# Altium footprint library gyh的PCB库 .PcbLib: 41 footprints (part 1 of 3)
Each footprint in its own frame and in the unit in brackets; x right, y up, seen from the top. Pads: shape width x height; smd on the part's side, far side on the other; paste and mask are expansions set on the pad; w line width, h text height; cw(c..) or ccw(c..) is an arc to the next point about the centre after c.
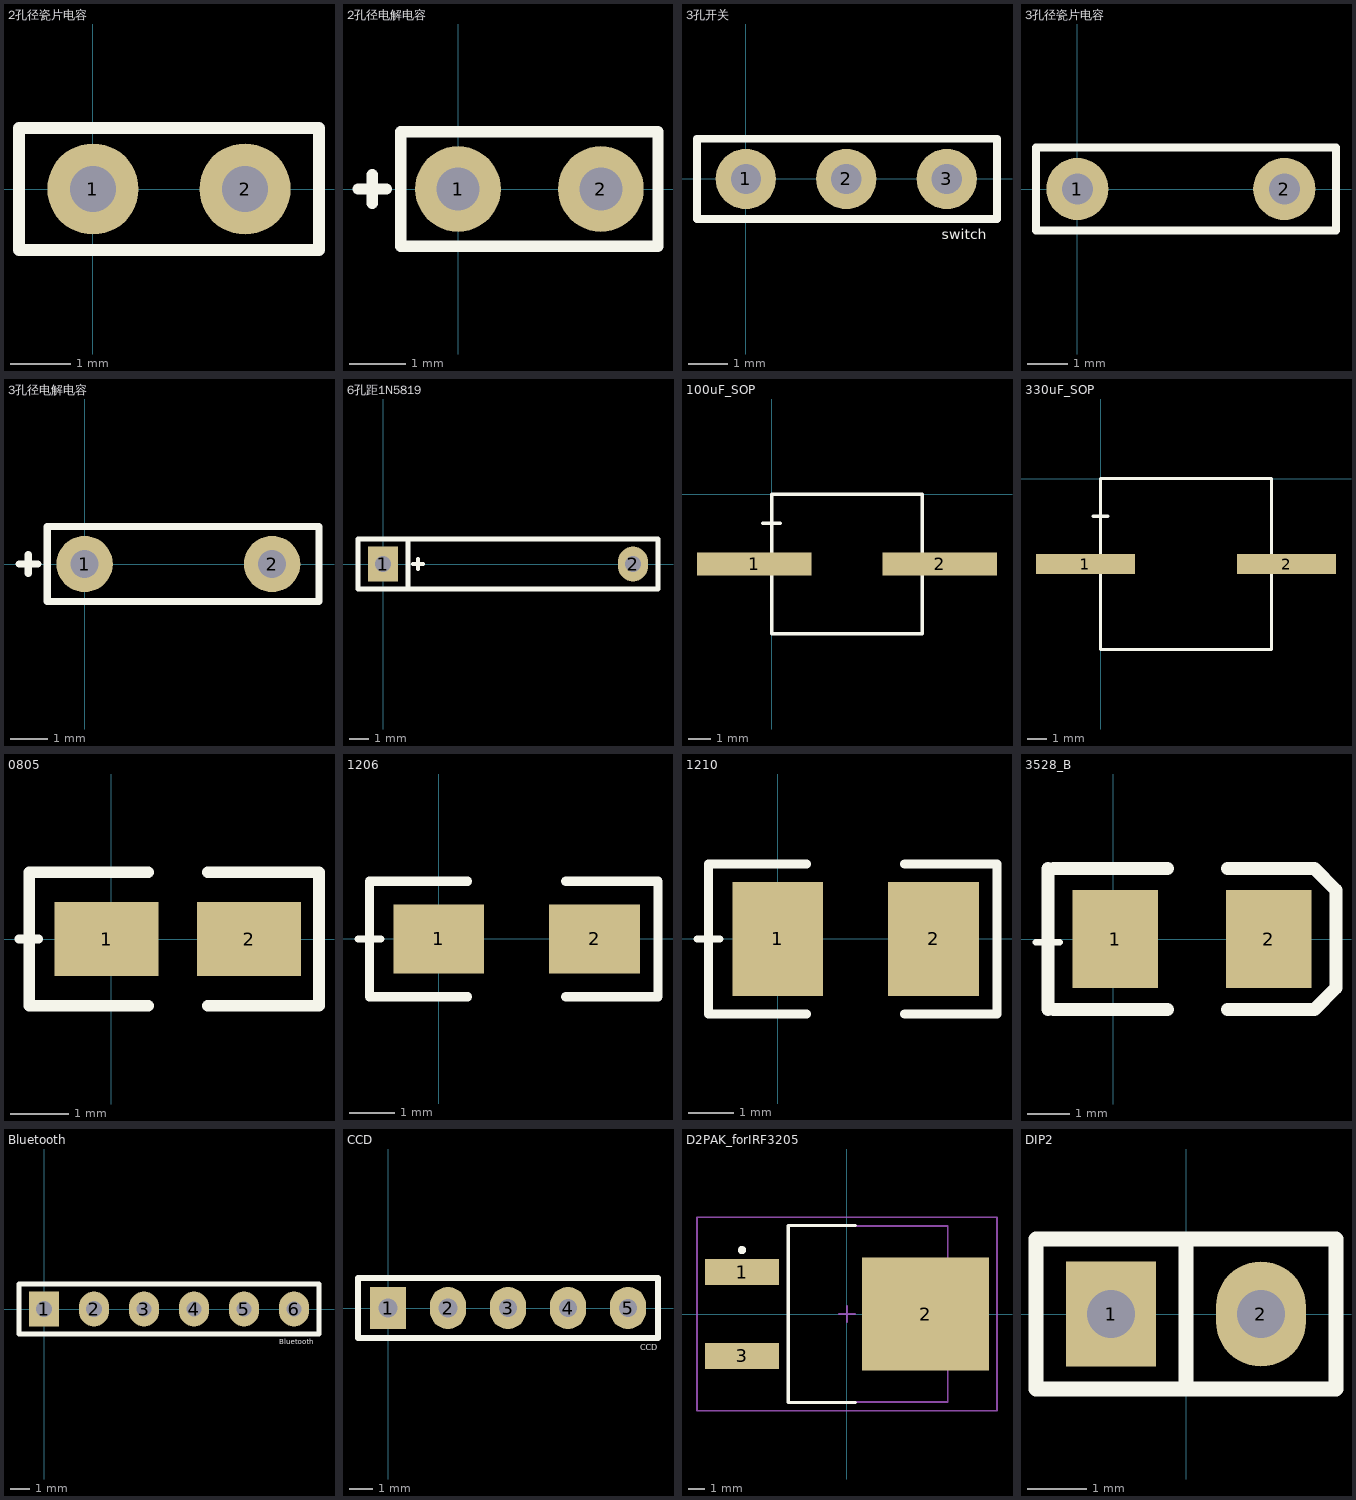
[diagram p0: the footprints below, top view; thin cyan lines are the x and y axes]

## 2孔径瓷片电容 [mil]
pads (2):
  round 60 hole 30: 1(0,0) 2(100,0)
Top Overlay:
  lines w7.87: -48.62,-40 -48.62,40 148.62,40 148.62,0 148.62,-40 -48.62,-40

## 2孔径电解电容 [mil]
pads (2):
  round 60 hole 30: 1(0,0) 2(100,0)
Top Overlay:
  lines w7.87: -70,0 -50,0 ; -60,-10 -60,10 ; -40,-40 140,-40 140,8.62 140,40 -40,40 -40,-40

## 3孔开关 [mil]
pads (3):
  round 60 hole 30: 1(0,0) 2(100,0) 3(200,0)
Top Overlay:
  lines w7.87: -48.62,-40 250,-40 250,40 -48.62,40 -48.62,-40
  text "switch" at 195,-60 h10

## 3孔径瓷片电容 [mil]
pads (2):
  round 60 hole 30: 1(0,0) 2(200,0)
Top Overlay:
  lines w7.87: -40,-40 250,-40 250,40 -40,40 -40,-40

## 3孔径电解电容 [mil]
pads (2):
  round 60 hole 30: 1(0,0) 2(200,0)
Top Overlay:
  lines w7.87: -70,0 -50,0 ; -60,-10 -60,10 ; -40,-40 132.5,-40 250,-40 250,40 -40,40 -40,-40

## 6孔距1N5819 [mil]
pads (2):
  rect 60x70 hole 32: 1(0,0)
  oval 60x70 hole 32: 2(500,0)
Top Overlay:
  lines w7.87: 60,0 80,0 ; 70,-10 70,10
  lines w10: 50,-50 50,50 ; -50,-50 -50,50 550,50 550,-50 -50,-50

## 100uF_SOP [mil] "6.3*5.4mm"
height 212.6
pads (2):
  rect 196.85x39.37 smd: 1(-30,-120) 2(290,-120)
Top Overlay:
  lines w6: -15,-50 15,-50 ; 0,-240 0,0 260,0 260,-240 0,-240

## 330uF_SOP [mil] "8*10.2"
pads (2):
  rect 196.85x39.37 smd: 1(-30,-170) 2(370,-170)
Top Overlay:
  lines w6: -15,-75 15,-75 ; 0,-340 0,0 340,0 340,-340 0,-340

## 0805 [mil]
pads (2):
  rect 70x50 smd: 1(-3,0) 2(93,0)
Top Overlay:
  lines w6: -62,0 -49,0
  lines w7.87: 25,-45 -55,-45 -55,45 25,45 ; 65,-45 140,-45 140,45 65,45

## 1206 [mil]
pads (2):
  rect 78.74x60 smd: 1(0,0) 2(135,0)
Top Overlay:
  lines w6: -70,0 -50,0
  lines w8: 25,-50 -60,-50 -60,50 25,50 ; 110,-50 190,-50 190,50 110,50

## 1210 [mm]
pads (2):
  rect 2x2.5 smd: 1(0,0) 2(3.429,0)
Top Overlay:
  lines w0.152: -1.778,0 -1.27,0
  lines w0.203: 0.635,-1.651 -1.524,-1.651 -1.524,1.651 0.635,1.651 ; 2.794,-1.651 4.826,-1.651 4.826,1.651 2.794,1.651

## 3528_B [mil]
pads (2):
  rect 78.74x90 smd: 1(2,0) 2(143,0)
Top Overlay:
  lines w6: -71,-3 -49,-3
  lines w12: -60,-65 -60,65 ; -55,-65 50,-65 ; -55,65 50,65 ; 105,-65 185,-65 205,-45 205,45 185,65 105,65

## Bluetooth [mil]
pads (6):
  rect 60x70 hole 32: 1(0,0)
  oval 60x70 hole 32: 2(100,0)
  oval 60x70 hole 30: 3(200,0) 4(300,0) 5(400,0) 6(500,0)
Top Overlay:
  lines w10: -50,-50 -50,50 550,50 550,-50 -50,-50
  text "Bluetooth" at 470,-70 h10

## CCD [mil]
pads (5):
  rect 60x70 hole 32: 1(0,0)
  oval 60x70 hole 32: 2(100,0)
  oval 60x70 hole 30: 3(200,0) 4(300,0) 5(400,0)
Top Overlay:
  lines w10: -50,-50 450,-50 450,50 -50,50 -50,-50
  text "CCD" at 420,-70 h10

## D2PAK_forIRF3205 [mm]
height 4.83
pads (3):
  rect 4.5x1.55 smd: 1(-6.35,2.54) 3(-6.35,-2.54)
  rect 7.7x6.85 smd: 2(4.75,0)
Top Overlay:
  circle w0.25: c-6.35,3.865 r0.125
  lines w0.2: 0.5,-5.35 -3.55,-5.35 -3.55,5.35 0.5,5.35
Mechanical 13:
  lines w0.1: -3.55,-5.325 6.1,-5.325 6.1,5.325 -3.55,5.325 -3.55,-5.325
Mechanical 15:
  lines w0.1: -0.5,0 0.5,0 ; 0,-0.5 0,0.5 ; -9.075,-5.85 9.075,-5.85 9.075,5.85 -9.075,5.85 -9.075,-5.85
3D body: height 4.83, standoff 0.43, extent -3.55,-5.325 6.1,5.325

## DIP2 [mil]
pads (2):
  rect 60x70 hole 32: 1(-50,0)
  oval 60x70 hole 32: 2(50,0)
Top Overlay:
  lines w10: 0,-50 0,50 ; -100,-50 -100,50 100,50 100,-50 -100,-50